# EAGLE library part 32U4_BREAKOU_SMD (library MRDT-2015-General)
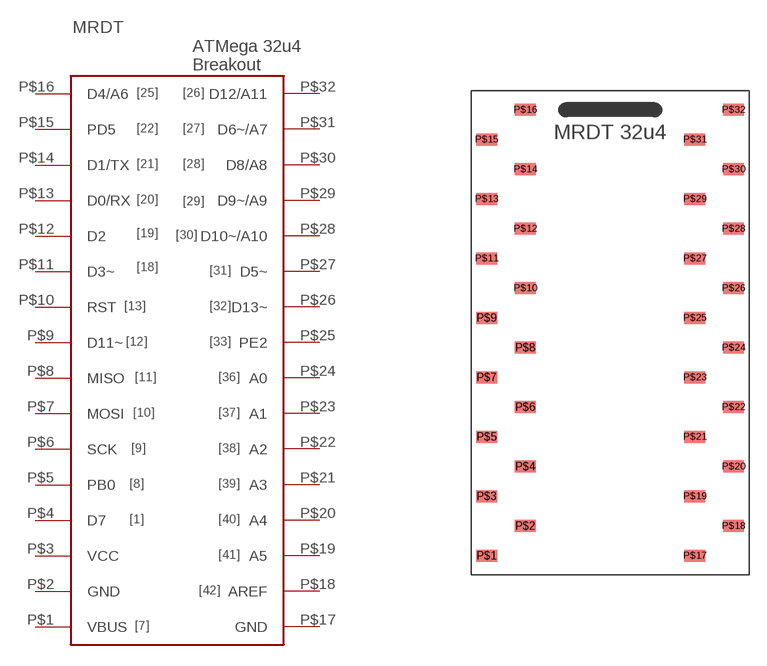
[diagram p3: symbol with the pads of 32U3_MCU_DIP_SMD; footprint 32U3_MCU_DIP_SMD]

Designator prefix -

## 32U4_BREAKOU_SMD  [32U3_MCU_DIP_SMD]
P$1  VBUS
P$2  GND
P$3  VCC
P$4  D7
P$5  PB0
P$6  SCK
P$7  MOSI
P$8  MISO
P$9  D11~
P$10  RST
P$11  D3~
P$12  D2
P$13  D0/RX
P$14  D1/TX
P$15  PD5
P$16  D4/A6
P$17  GND
P$18  AREF
P$19  A5
P$20  A4
P$21  A3
P$22  A2
P$23  A1
P$24  A0
P$25  PE2
P$26  D13~
P$27  D5~
P$28  D10~/A10
P$29  D9~/A9
P$30  D8/A8
P$31  D6~/A7
P$32  D12/A11

## Footprint 32U3_MCU_DIP_SMD (pad centres in mm)
smd 1.778 x 1.016: P$1 -10.541,-19.05; P$2 -7.239,-16.51; P$3 -10.541,-13.97; P$4 -7.239,-11.43; P$5 -10.541,-8.89; P$6 -7.239,-6.35; P$7 -10.541,-3.81; P$8 -7.239,-1.27; P$9 -10.541,1.27; P$10 -7.239,3.81; P$11 -10.541,6.35; P$12 -7.239,8.89; P$13 -10.541,11.43; P$14 -7.239,13.97; P$15 -10.541,16.51; P$16 -7.239,19.05; P$17 7.239,-19.05; P$18 10.541,-16.51; P$19 7.239,-13.97; P$20 10.541,-11.43; P$21 7.239,-8.89; P$22 10.541,-6.35; P$23 7.239,-3.81; P$24 10.541,-1.27; P$25 7.239,1.27; P$26 10.541,3.81; P$27 7.239,6.35; P$28 10.541,8.89; P$29 7.239,11.43; P$30 10.541,13.97; P$31 7.239,16.51; P$32 10.541,19.05